# EAGLE library part ADXL335BCPZ-RL (library new_adxl335)
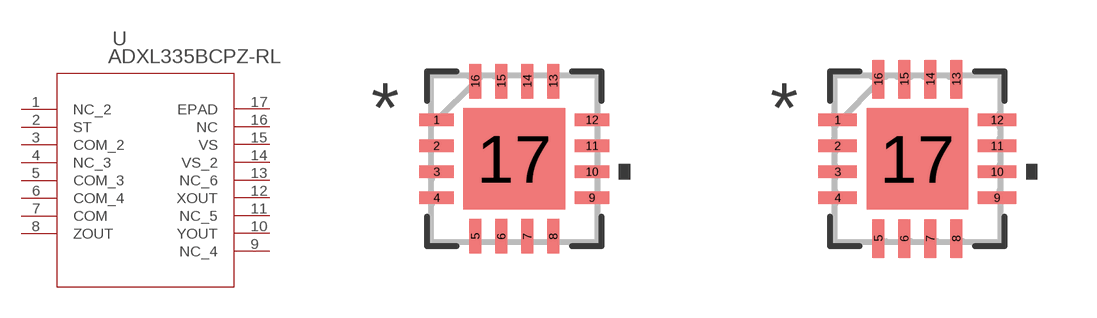
[diagram p0: symbol with the pads of CP_16_14_ADI; footprints CP_16_14_ADI, CP_16_14_ADI-M]

Designator prefix U

## ADXL335BCPZ-RL (BUILT_BY: EMA_UL_Team; COPYRIGHT: Copyright (C) 2018 Accelerated Designs. All rights reserved; MANUFACTURER_PART_NUMBER: ADXL335BCPZ-RL; SOURCELIBRARY: Analog_2019-03-08; VENDOR: Analog Devices Inc)  [CP_16_14_ADI]
1  NC_2  nc
2  ST  pas
3  COM_2  pas
4  NC_3  nc
5  COM_3  pas
6  COM_4  pas
7  COM  pas
8  ZOUT  out
9  NC_4  nc
10  YOUT  out
11  NC_5  nc
12  XOUT  out
13  NC_6  nc
14  VS_2  pas
15  VS  pas
16  NC  nc
17  EPAD  pas

## ADXL335BCPZ-RLCP_16_14_ADI-M (BUILT_BY: EMA_UL_Team; COPYRIGHT: Copyright (C) 2018 Accelerated Designs. All rights reserved; MANUFACTURER_PART_NUMBER: ADXL335BCPZ-RL; SOURCELIBRARY: Analog_2019-03-08; VENDOR: Analog Devices Inc)  [CP_16_14_ADI-M]
Pads as for CP_16_14_ADI

## ADXL335BCPZ-RLCP_16_14_ADI-L (BUILT_BY: EMA_UL_Team; COPYRIGHT: Copyright (C) 2018 Accelerated Designs. All rights reserved; MANUFACTURER_PART_NUMBER: ADXL335BCPZ-RL; SOURCELIBRARY: Analog_2019-03-08; VENDOR: Analog Devices Inc)  [CP_16_14_ADI-L]
Pads as for CP_16_14_ADI

## Footprint CP_16_14_ADI (pad centres in mm)
smd 0.864 x 0.305: 1 -1.943,0.975; 2 -1.943,0.325; 3 -1.943,-0.325; 4 -1.943,-0.975; 9 1.943,-0.975; 10 1.943,-0.325; 11 1.943,0.325; 12 1.943,0.975
smd 0.305 x 0.864: 5 -0.975,-1.943; 6 -0.325,-1.943; 7 0.325,-1.943; 8 0.975,-1.943; 13 0.975,1.943; 14 0.325,1.943; 15 -0.325,1.943; 16 -0.975,1.943
smd 2.54 x 2.54: 17 0,0

## Footprint CP_16_14_ADI-M (pad centres in mm)
smd 0.965 x 0.305: 1 -1.994,0.975; 2 -1.994,0.325; 3 -1.994,-0.325; 4 -1.994,-0.975; 9 1.994,-0.975; 10 1.994,-0.325; 11 1.994,0.325; 12 1.994,0.975
smd 0.305 x 0.965: 5 -0.975,-1.994; 6 -0.325,-1.994; 7 0.325,-1.994; 8 0.975,-1.994; 13 0.975,1.994; 14 0.325,1.994; 15 -0.325,1.994; 16 -0.975,1.994
smd 2.54 x 2.54: 17 0,0

## Footprint CP_16_14_ADI-L (pad centres in mm)
smd 0.762 x 0.305: 1 -1.892,0.975; 2 -1.892,0.325; 3 -1.892,-0.325; 4 -1.892,-0.975; 9 1.892,-0.975; 10 1.892,-0.325; 11 1.892,0.325; 12 1.892,0.975
smd 0.305 x 0.762: 5 -0.975,-1.892; 6 -0.325,-1.892; 7 0.325,-1.892; 8 0.975,-1.892; 13 0.975,1.892; 14 0.325,1.892; 15 -0.325,1.892; 16 -0.975,1.892
smd 2.54 x 2.54: 17 0,0